# EAGLE library part 74941503 (library Wurth_Signal & Communications_WE-PLC)
WE-PLC Transformer Characteristics Insulation test voltage of 4500 VDC / 1 min. Operating temperature: -40 °C to 125 °C Different transmission ratios Applications Wallbox / public EV charging systems Frequency range from 500 kHz to 30 MHz Industrial signal isolation <https://www.we-online.com/components/media/o778611v209%20FAMILY-WE-PLC-7494150X-02.jpg> Details see: www.we-online.com/en/components/products/WE-PLC <www.we-online.com/catalog/WE-PLC/?utm_source=eagle_model&utm_medium=description_link&utm_campaign=eisos_eagle> Created by Ella Wu 2024-04-08 2024 (C) Wurth Elektronik
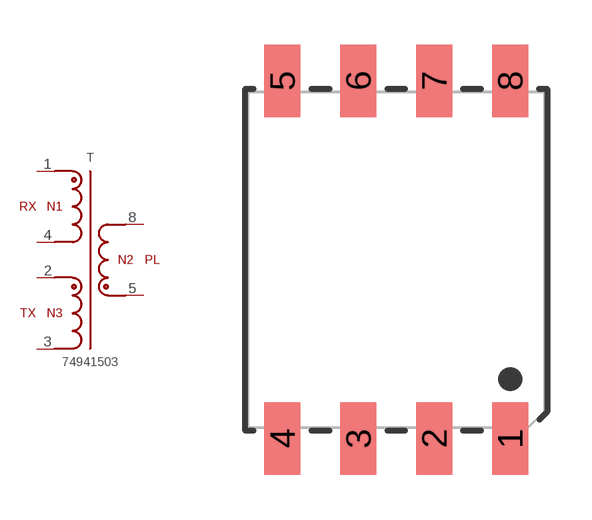
[diagram p0: symbol with the pads of WE-PLC_7494150X; footprint WE-PLC_7494150X]

Designator prefix T

## 74941503 (DATASHEET-URL: https://www.we-online.com/redexpert/spec/74941503?ae; L: 20uH; MOUNT: SMT; OPERATING-TEMPERATURE: -40 °C up to +125 °C; PART-NUMBER: 74941503; PORTS: 1; VALUE: 74941503; VT: 4500V(AC))  [WE-PLC_7494150X]
1  1  pas
2  2  pas
3  3  pas
4  4  pas
5  5  pas
8  8  pas

## Footprint WE-PLC_7494150X (pad centres in mm)
WE-PLC Transformer
smd 1.2 x 2.42: 1 3.81,-5.99; 2 1.27,-5.99; 3 -1.27,-5.99; 4 -3.81,-5.99; 5 -3.81,5.99; 6 -1.27,5.99; 7 1.27,5.99; 8 3.81,5.99